# Altium footprint library eggubator.PcbLib: 21 footprints (part 1 of 2)
Each footprint in its own frame and in the unit in brackets; x right, y up, seen from the top. Pads: shape width x height; smd on the part's side, far side on the other; paste and mask are expansions set on the pad; w line width, h text height; cw(c..) or ccw(c..) is an arc to the next point about the centre after c.
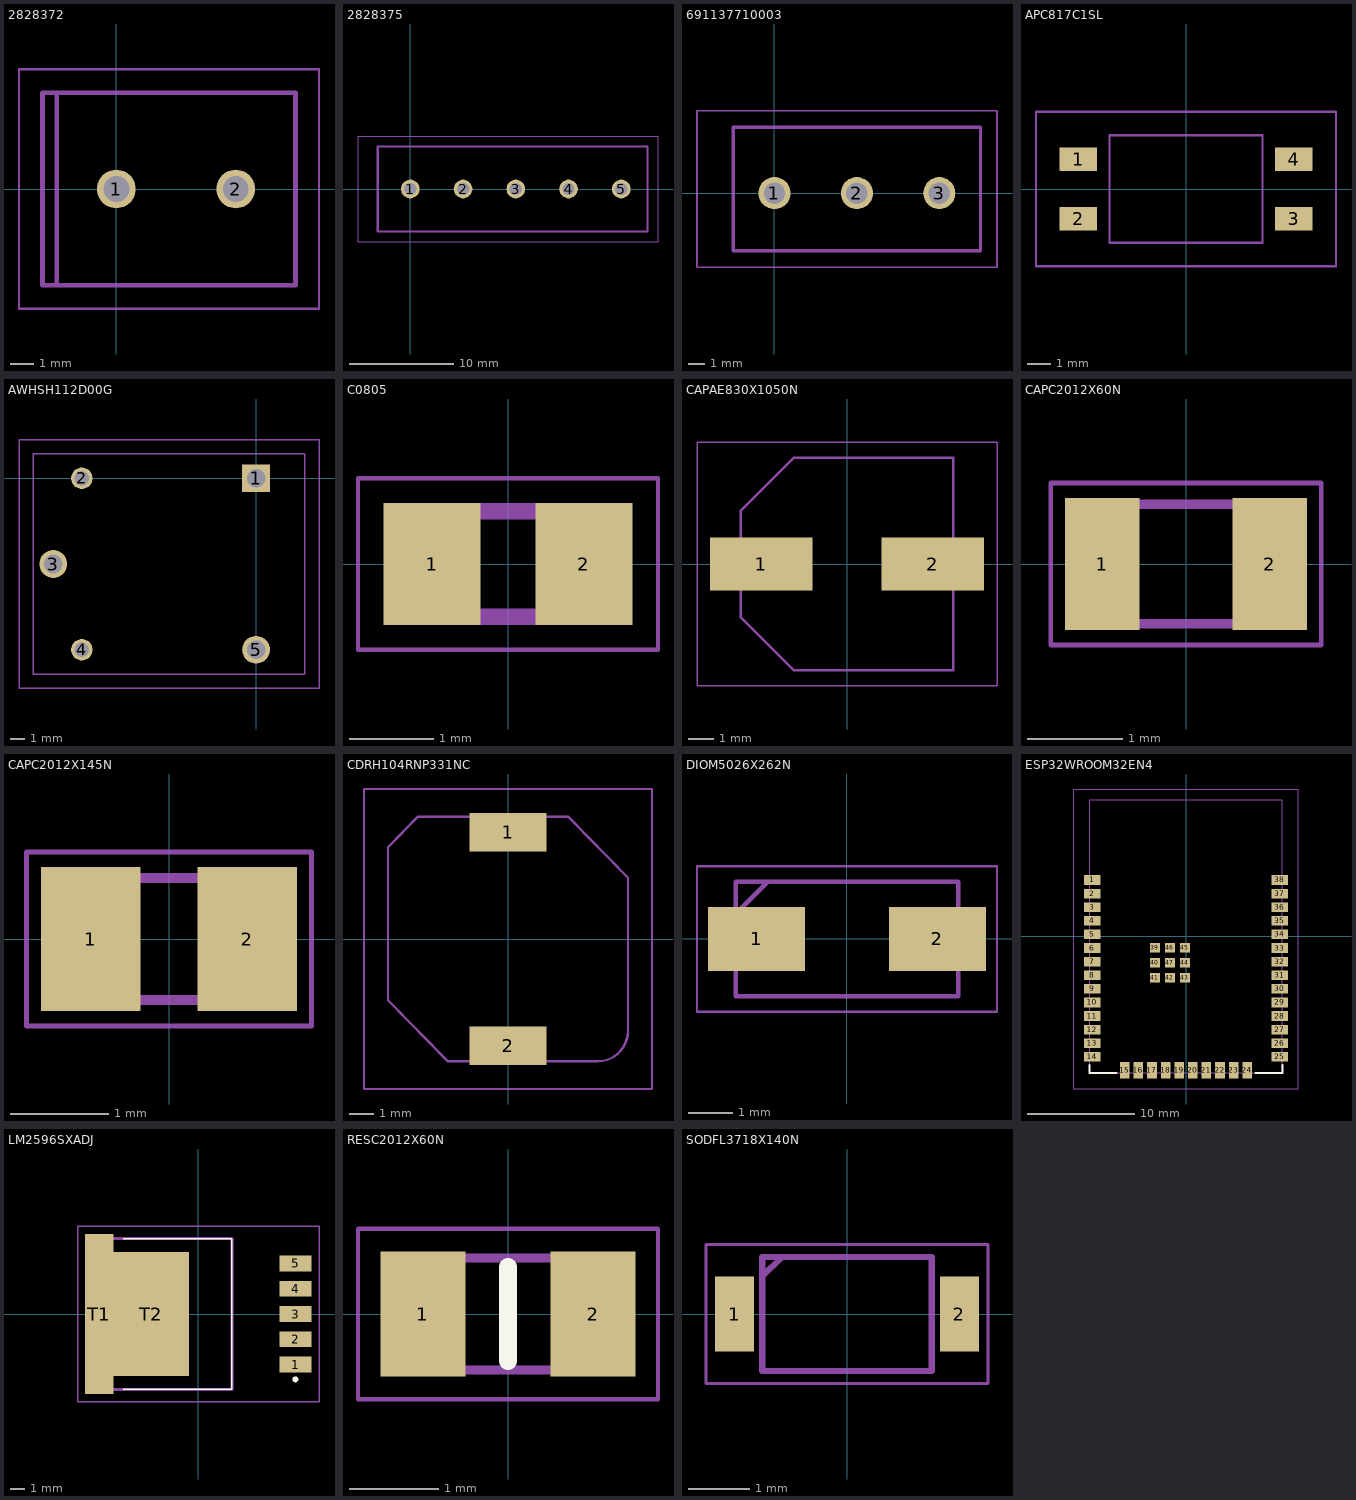
[diagram p0: the footprints below, top view; thin cyan lines are the x and y axes]

## 2828372 [mm]
pads (2):
  round 1.65 hole 1.1: 1(0,0) 2(5.08,0)
Mechanical 13:
  lines w0.2: -2.54,-4.1 7.62,-4.1 7.62,4.1 -2.54,4.1 ; -2.54,-4.1 -2.54,4.1 ; -2.54,-4.1 -2.54,4.1 ; -2.54,-4.1 -3.14,-4.1 -3.14,4.1 -2.54,4.1
Mechanical 15:
  lines w0.1: -4.14,-5.1 8.62,-5.1 8.62,5.1 -4.14,5.1 -4.14,-5.1
3D body "282837-2.stp": height 9.84, standoff -3.66, extent -2.51,-4.11 8.25,4.09

## 2828375 [mm]
pads (5):
  round 1.8 hole 1.2: 1(0,0) 2(5.08,0) 3(10.16,0) 4(15.24,0) 5(20.32,0)
Mechanical 13:
  lines w0.2: -3.14,-4.1 22.86,-4.1 22.86,4.1 -3.14,4.1 -3.14,-4.1
Mechanical 15:
  lines w0.1: -5.04,-5.1 23.86,-5.1 23.86,5.1 -5.04,5.1 -5.04,-5.1
3D body "282837-5.stp": height 9.93, standoff -3.57, extent -3.08,-4.1 22.92,4.1

## 691137710003 [mm]
pads (3):
  round 1.95 hole 1.3: 1(0,0) 2(5,0) 3(10,0)
Mechanical 13:
  lines w0.2: -2.5,-3.5 -2.5,4 12.5,4 12.5,-3.5 -2.5,-3.5
Mechanical 15:
  lines w0.1: -4.7,-4.5 -4.7,5 13.5,5 13.5,-4.5 -4.7,-4.5
3D body "691137710003.stp": height 11.5, standoff -3.6, extent -2.681,-3.496 12.319,4.004

## APC817C1SL [mm]
pads (4):
  rect 1.6x1 smd: 1(-4.575,1.27) 2(-4.575,-1.27) 3(4.575,-1.27) 4(4.575,1.27)
Mechanical 13:
  lines w0.1: -3.25,-2.29 3.25,-2.29 3.25,2.29 -3.25,2.29 -3.25,-2.29
Mechanical 15:
  lines w0.1: -6.375,-3.29 6.375,-3.29 6.375,3.29 -6.375,3.29 -6.375,-3.29
3D body "APC-817C1-SL.stp": height 3.6, standoff 0, extent -5.074,-2.443 5.074,2.443

## AWHSH112D00G [mm]
pads (5):
  rect 1.95x1.95 hole 1.3: 1(0,0)
  round 1.5 hole 1: 2(-12.2,0) 4(-12.2,-12)
  round 1.95 hole 1.3: 3(-14.2,-6) 5(0,-12)
Mechanical 13:
  lines w0.1: -15.6,-13.7 -15.6,1.7 3.4,1.7 3.4,-13.7 -15.6,-13.7
Mechanical 15:
  lines w0.1: -16.6,-14.7 -16.6,2.7 4.4,2.7 4.4,-14.7 -16.6,-14.7
3D body "AWHSH112D00G.stp": height 15.4, standoff -5, extent -15.6,-13.7 3.4,1.7

## C0805 [mm]
pads (2):
  rect 1.15x1.45 smd: 1(-0.9,0) 2(0.9,0)
Mechanical 13:
  lines w0.2: -1,-0.625 -1,0.625 1,0.625 1,-0.625 -1,-0.625
Mechanical 15:
  lines w0.05: -1.778,-1.016 -1.778,1.016 1.778,1.016 1.778,-1.016 -1.778,-1.016
3D body "C0805C105K3RACAUTO7210.stp": height 0.98, standoff 0, extent -1.15,-0.78 1.15,0.77

## CAPAE830X1050N [mm]
pads (2):
  rect 4x2.05 smd: 1(-3.35,0) 2(3.35,0)
Mechanical 13:
  lines w0.1: -4.15,-2.075 -4.15,2.075 -2.075,4.15 4.15,4.15 4.15,-4.15 -2.075,-4.15 -4.15,-2.075
Mechanical 15:
  lines w0.05: -5.85,-4.75 5.85,-4.75 5.85,4.75 -5.85,4.75 -5.85,-4.75
3D body "865060453007.stp": height 10.5, standoff 0, extent -4.5,-4.15 4.5,4.15

## CAPC2012X60N [mm]
pads (2):
  rect 0.78x1.39 smd: 1(-0.88,0) 2(0.88,0)
Mechanical 13:
  lines w0.1: -1,-0.625 1,-0.625 1,0.625 -1,0.625 -1,-0.625
Mechanical 15:
  lines w0.05: -1.42,-0.85 1.42,-0.85 1.42,0.85 -1.42,0.85 -1.42,-0.85
3D body "RC0805FR-07680RL.stp": height 0.6, standoff 0, extent -1,-0.625 1,0.625

## CAPC2012X145N [mm]
pads (2):
  rect 1.02x1.47 smd: 1(-0.8,0) 2(0.8,0)
Mechanical 13:
  lines w0.1: -1,-0.625 -1,0.625 1,0.625 1,-0.625 -1,-0.625
Mechanical 15:
  lines w0.05: -1.46,-0.89 -1.46,0.89 1.46,0.89 1.46,-0.89 -1.46,-0.89
3D body "CC0805KKX5R9BB106.stp": height 1.45, standoff 0, extent -1,-0.625 1,0.625

## CDRH104RNP331NC [mm]
pads (2):
  rect 3.2x1.6 smd: 1(0,4.45) 2(0,-4.45)
Mechanical 13:
  lines w0.1: 3.749,-5.1 ccw(c3.725,-3.825) 5,-3.825 5,2.55 2.5,5.1 -3.75,5.1 -5,3.825 -5,-2.55 -2.5,-5.1 3.75,-5.1
Mechanical 15:
  lines w0.1: -6,-6.25 6,-6.25 6,6.25 -6,6.25 -6,-6.25
3D body "CDRH104RNP-331NC.stp": height 0.1, standoff 0, extent -1.44,-5.09 1.44,5.09

## DIOM5026X262N [mm]
pads (2):
  rect 2.2x1.45 smd: 1(-2.05,0) 2(2.05,0)
Mechanical 13:
  lines w0.1: -2.52,0.575 -1.795,1.3 ; -2.52,-1.3 2.52,-1.3 2.52,1.3 -2.52,1.3 -2.52,-1.3
Mechanical 15:
  lines w0.05: -3.4,-1.65 3.4,-1.65 3.4,1.65 -3.4,1.65 -3.4,-1.65
3D body "SS54.stp": height 2.62, standoff 0, extent -2.52,-1.3 2.52,1.3

## ESP32WROOM32EN4 [mm]
pads (47):
  rect 1.5x0.9 smd: 1(-8.75,5.26) 2(-8.75,3.99) 3(-8.75,2.72) 4(-8.75,1.45) 5(-8.75,0.18) 6(-8.75,-1.09) 7(-8.75,-2.36) 8(-8.75,-3.63) 9(-8.75,-4.9) 10(-8.75,-6.17) 11(-8.75,-7.44) 12(-8.75,-8.71) 13(-8.75,-9.98) 14(-8.75,-11.25) 25(8.75,-11.25) 26(8.75,-9.98) 27(8.75,-8.71) 28(8.75,-7.44) 29(8.75,-6.17) 30(8.75,-4.9) 31(8.75,-3.63) 32(8.75,-2.36) 33(8.75,-1.09) 34(8.75,0.18) 35(8.75,1.45) 36(8.75,2.72) 37(8.75,3.99) 38(8.75,5.26)
  rect 0.9x1.5 smd: 15(-5.715,-12.5) 16(-4.445,-12.5) 17(-3.175,-12.5) 18(-1.905,-12.5) 19(-0.635,-12.5) 20(0.635,-12.5) 21(1.905,-12.5) 22(3.175,-12.5) 23(4.445,-12.5) 24(5.715,-12.5)
  rect 0.9x0.9 smd: 39(-2.9,-1.06) 40(-2.9,-2.46) 41(-2.9,-3.86) 42(-1.5,-3.86) 43(-0.1,-3.86) 44(-0.1,-2.46) 45(-0.1,-1.06) 46(-1.5,-1.06) 47(-1.5,-2.46)
Top Overlay:
  lines w0.2: -9,-12 -9,-12.75 -6.5,-12.75 ; 6.5,-12.75 9,-12.75 9,-12
Mechanical 13:
  lines w0.1: -9,-12.75 9,-12.75 9,12.75 -9,12.75 -9,-12.75
Mechanical 15:
  lines w0.1: -10.5,-14.25 10.5,-14.25 10.5,13.75 -10.5,13.75 -10.5,-14.25
3D body "ESP32-WROOM-32E-N4.stp": height 3.2, standoff 0, extent -9.21,-12.84 8.978,12.75

## LM2596SXADJ [mm]
pads (7):
  rect 2.16x1.07 smd: 1(6.545,-3.4) 2(6.545,-1.7) 3(6.545,0) 4(6.545,1.7) 5(6.545,3.4)
  rect 1.91x10.8 smd: T1(-6.67,0)
  rect 5.08x8.33 smd: T2(-3.175,0)
Top Overlay:
  lines w0.1: -5.063,-5.08 2.258,-5.08 2.258,5.08 -5.063,5.08
  lines w0.2: 6.437,-4.4 cw(c6.537,-4.4) 6.637,-4.4 cw(c6.537,-4.4) 6.437,-4.4
Mechanical 13:
  lines w0.2: -6.383,-5.08 -6.383,5.08 2.258,5.08 2.258,-5.08 -6.383,-5.08
Mechanical 15:
  lines w0.1: -8.125,-5.9 -8.125,5.9 8.125,5.9 8.125,-5.9 -8.125,-5.9
3D body "LM2596S-ADJ_NOPB.stp": height 4.8, standoff 0, extent -7.2,-5.21 7.192,5.2

## PCBComponent_1 [mm]

## RESC2012X60N [mm]
pads (2):
  rect 0.95x1.4 smd: 1(-0.95,0) 2(0.95,0)
Top Overlay:
  lines w0.2: 0,-0.525 0,0.525
Mechanical 13:
  lines w0.1: -1,-0.625 -1,0.625 1,0.625 1,-0.625 -1,-0.625
Mechanical 15:
  lines w0.05: -1.675,-0.95 -1.675,0.95 1.675,0.95 1.675,-0.95 -1.675,-0.95
3D body "AT0805DRD071KL.stp": height 0.6, standoff 0, extent -1,-0.625 1,0.625

## SODFL3718X140N [mm]
pads (2):
  rect 0.63x1.22 smd: 1(-1.825,0) 2(1.825,0)
Mechanical 13:
  lines w0.1: -1.375,0.61 -1.06,0.925 ; -1.375,-0.925 -1.375,0.925 1.375,0.925 1.375,-0.925 -1.375,-0.925
Mechanical 15:
  lines w0.05: -2.29,-1.125 -2.29,1.125 2.29,1.125 2.29,-1.125 -2.29,-1.125
3D body "1N4007FLTR.stp": height 1.4, standoff 0, extent -1.85,-0.925 1.85,0.925